# Altium footprint library VH3.96.PcbLib: 28 footprints (part 1 of 2)
Each footprint in its own frame and in the unit in brackets; x right, y up, seen from the top. Pads: shape width x height; smd on the part's side, far side on the other; paste and mask are expansions set on the pad; w line width, h text height; cw(c..) or ccw(c..) is an arc to the next point about the centre after c.
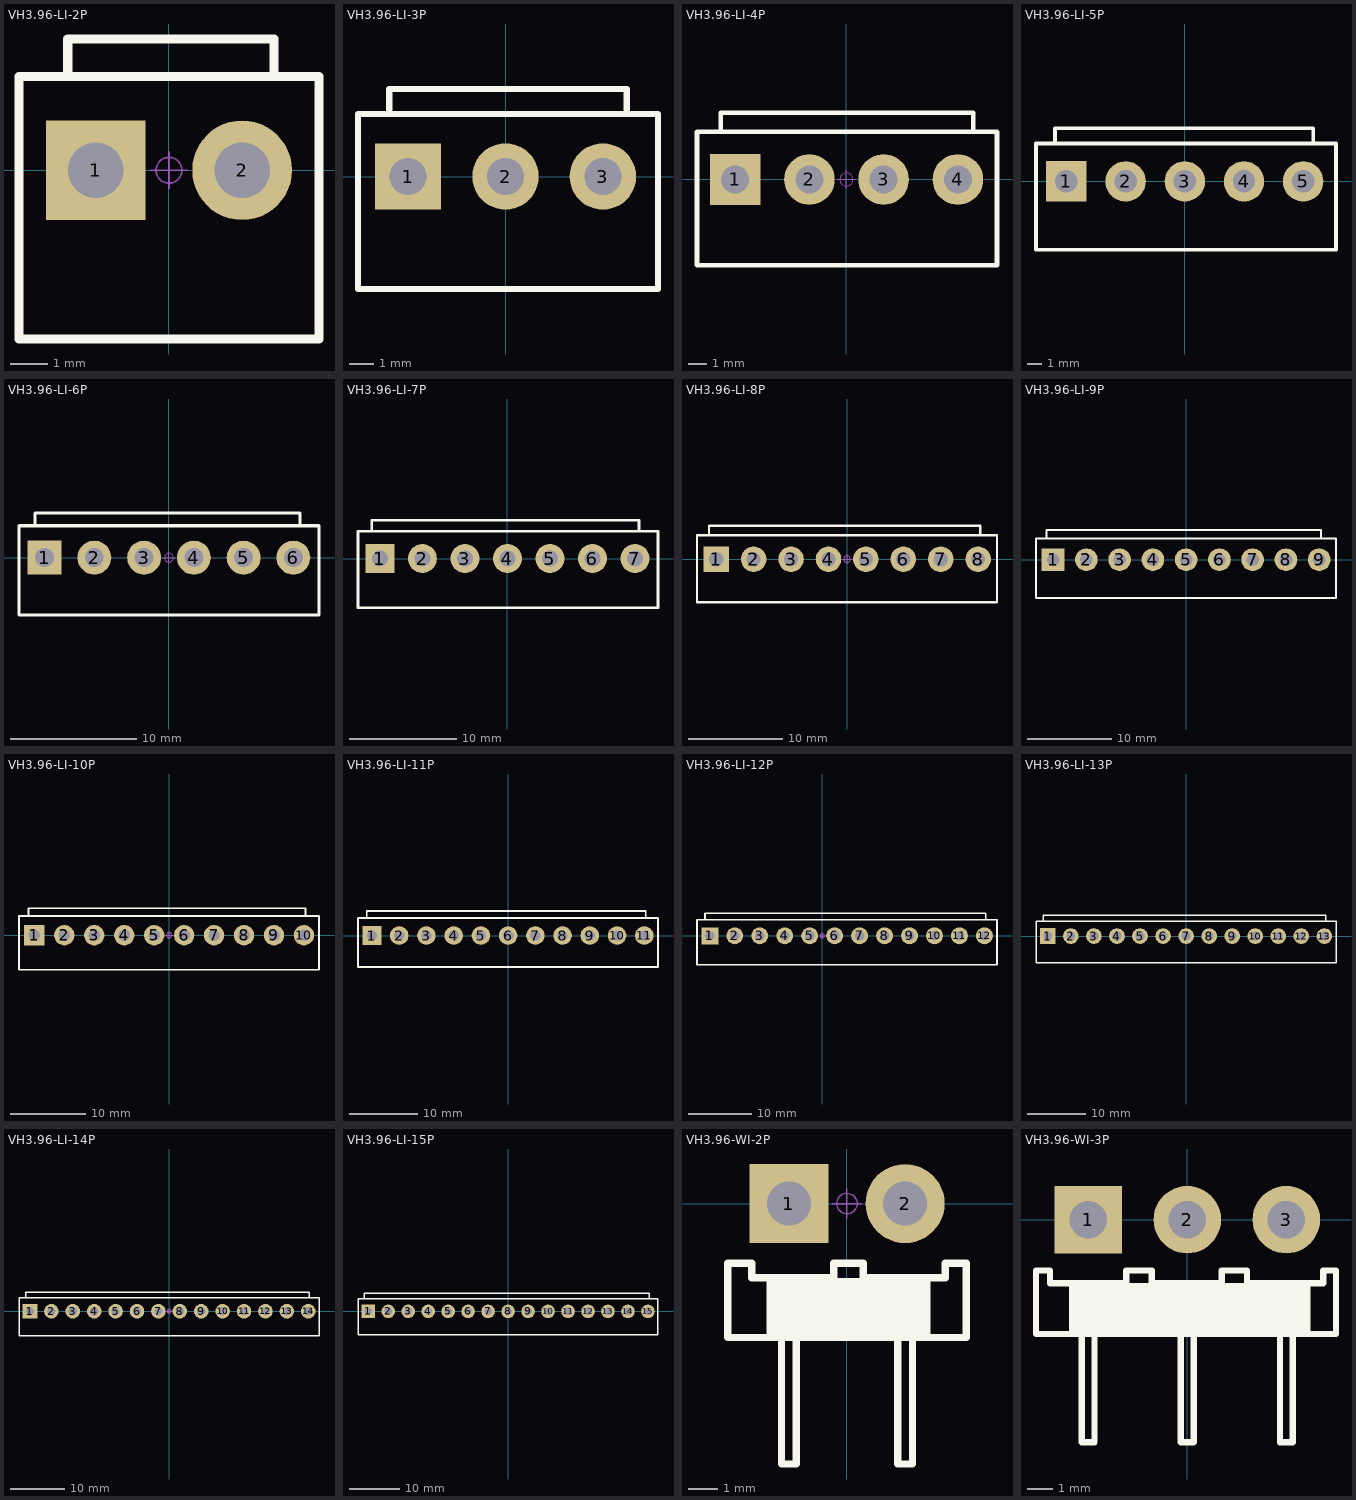
[diagram p0: the footprints below, top view; thin cyan lines are the x and y axes]

## VH3.96-LI-2P [mm] "接插件，25V/5A"
pads (2):
  rect 2.7x2.7 hole 1.5: 1(-1.98,0)
  round 2.7 hole 1.5: 2(1.982,0)
Top Overlay:
  lines w0.254: -2.742,2.54 -2.742,3.556 2.846,3.556 2.846,2.54 ; 4.065,0 4.065,-4.572 ; 4.065,-4.572 4.065,2.54 -4.063,2.54 -4.063,-4.572 -2.336,-4.572 4.065,-4.572
Mechanical 15:
  circle w0.05: c0,0 r0.35
  lines w0.05: -0.5,0 0.5,0 ; 0,-0.5 0,0.5
3D body: height 10.5, standoff -3.3, extent -3.98,-4.4 0.07,4.16
3D body: height 10.5, standoff -3.3, extent -0.02,-4.4 4.03,4.16

## VH3.96-LI-3P [mm] "接插件，25V/5A"
pads (3):
  rect 2.7x2.7 hole 1.5: 1(-3.962,0)
  round 2.7 hole 1.5: 2(0,0) 3(3.96,0)
Top Overlay:
  lines w0.254: -4.724,2.54 -4.724,3.556 4.928,3.556 4.928,2.54 ; -5.994,-4.572 -5.994,2.54 6.198,2.54 6.198,-4.572 -4.318,-4.572 -5.994,-4.572
Mechanical 15:
  circle w0.05: c0,0 r0.35
  lines w0.05: -0.5,0 0.5,0 ; 0,-0.5 0,0.5
3D body: height 10.5, standoff -3.3, extent 1.958,-4.4 6.008,4.16
3D body: height 10.5, standoff -3.3, extent -5.962,-4.4 -1.912,4.16
3D body: height 10.5, standoff -3.3, extent -2.002,-4.4 2.048,4.16

## VH3.96-LI-4P [mm] "接插件，25V/5A"
pads (4):
  rect 2.7x2.7 hole 1.5: 1(-5.94,0)
  round 2.7 hole 1.5: 2(-1.978,0) 3(1.982,0) 4(5.942,0)
Top Overlay:
  lines w0.254: -6.702,2.54 -6.702,3.556 6.76,3.556 6.76,2.54 ; -7.972,-4.572 -7.972,2.54 8.03,2.54 8.03,-4.572 -6.296,-4.572 -7.972,-4.572
Mechanical 15:
  circle w0.05: c0,0 r0.35
  lines w0.05: -0.5,0 0.5,0 ; 0,-0.5 0,0.5
3D body: height 10.5, standoff -3.3, extent -7.94,-4.4 -3.89,4.16
3D body: height 10.5, standoff -3.3, extent -3.98,-4.4 0.07,4.16
3D body: height 10.5, standoff -3.3, extent -0.02,-4.4 4.03,4.16
3D body: height 10.5, standoff -3.3, extent 3.94,-4.4 7.99,4.16

## VH3.96-LI-5P [mm] "接插件，25V/5A"
pads (5):
  rect 2.7x2.7 hole 1.5: 1(-7.92,0)
  round 2.7 hole 1.5: 2(-3.958,0) 3(0.002,0) 4(3.962,0) 5(7.922,0)
Top Overlay:
  lines w0.254: -8.682,2.54 -8.682,3.556 8.59,3.556 8.59,2.54 ; -9.952,-4.572 -8.276,-4.572 10.114,-4.572 10.114,2.54 -9.952,2.54 -9.952,-4.572
Mechanical 15:
  circle w0.05: c0,0 r0.35
  lines w0.05: -0.5,0 0.5,0 ; 0,-0.5 0,0.5
3D body: height 10.5, standoff -3.3, extent 1.958,-4.4 6.008,4.16
3D body: height 10.5, standoff -3.3, extent -2,-4.4 2.05,4.16
3D body: height 10.5, standoff -3.3, extent -5.96,-4.4 -1.91,4.16
3D body: height 10.5, standoff -3.3, extent -9.92,-4.4 -5.87,4.16
3D body: height 10.5, standoff -3.3, extent 5.92,-4.4 9.97,4.16

## VH3.96-LI-6P [mm] "接插件，25V/5A"
pads (6):
  rect 2.7x2.7 hole 1.5: 1(-9.9,0)
  round 2.7 hole 1.5: 2(-5.938,0) 3(-1.978,0) 4(1.982,0) 5(5.942,0) 6(9.902,0)
Top Overlay:
  lines w0.254: -10.662,2.54 -10.662,3.556 10.42,3.556 10.42,2.54 ; -11.932,-4.572 -10.256,-4.572 11.944,-4.572 11.944,2.54 -11.932,2.54 -11.932,-4.572
Mechanical 15:
  circle w0.05: c0,0 r0.35
  lines w0.05: -0.5,0 0.5,0 ; 0,-0.5 0,0.5
3D body: height 10.5, standoff -3.3, extent 7.9,-4.4 11.95,4.16
3D body: height 10.5, standoff -3.3, extent -0.022,-4.4 4.028,4.16
3D body: height 10.5, standoff -3.3, extent -3.98,-4.4 0.07,4.16
3D body: height 10.5, standoff -3.3, extent -7.94,-4.4 -3.89,4.16
3D body: height 10.5, standoff -3.3, extent -11.9,-4.4 -7.85,4.16
3D body: height 10.5, standoff -3.3, extent 3.938,-4.4 7.988,4.16

## VH3.96-LI-7P [mm] "接插件，25V/5A"
pads (7):
  rect 2.7x2.7 hole 1.5: 1(-11.88,0)
  round 2.7 hole 1.5: 2(-7.918,0) 3(-3.958,0) 4(0.002,0) 5(3.962,0) 6(7.922,0) 7(11.882,0)
Top Overlay:
  lines w0.254: -12.642,2.54 -12.642,3.556 12.25,3.556 12.25,2.54 ; -13.912,-4.572 -13.912,2.54 14.028,2.54 14.028,-4.572 -12.236,-4.572 -13.912,-4.572
Mechanical 15:
  circle w0.05: c0,0 r0.35
  lines w0.05: -0.5,0 0.5,0 ; 0,-0.5 0,0.5
3D body: height 10.5, standoff -3.3, extent 9.88,-4.4 13.93,4.16
3D body: height 10.5, standoff -3.3, extent 5.915,-4.4 9.965,4.16
3D body: height 10.5, standoff -3.3, extent 1.958,-4.4 6.008,4.16
3D body: height 10.5, standoff -3.3, extent -13.88,-4.4 -9.83,4.16
3D body: height 10.5, standoff -3.3, extent -9.92,-4.4 -5.87,4.16
3D body: height 10.5, standoff -3.3, extent -5.96,-4.4 -1.91,4.16
3D body: height 10.5, standoff -3.3, extent -2.002,-4.4 2.048,4.16

## VH3.96-LI-8P [mm] "接插件，25V/5A"
pads (8):
  rect 2.7x2.7 hole 1.5: 1(-13.86,0)
  round 2.7 hole 1.5: 2(-9.898,0) 3(-5.938,0) 4(-1.978,0) 5(1.982,0) 6(5.942,0) 7(9.902,0) 8(13.862,0)
Top Overlay:
  lines w0.254: -14.622,2.54 -14.622,3.556 14.08,3.556 14.08,2.54 ; -15.892,-4.572 -15.892,2.54 15.858,2.54 15.858,-4.572 -14.216,-4.572 -15.892,-4.572
Mechanical 15:
  circle w0.05: c0,0 r0.35
  lines w0.05: -0.5,0 0.5,0 ; 0,-0.5 0,0.5
3D body: height 10.5, standoff -3.3, extent 7.898,-4.4 11.948,4.16
3D body: height 10.5, standoff -3.3, extent 3.935,-4.4 7.985,4.16
3D body: height 10.5, standoff -3.3, extent -0.022,-4.4 4.028,4.16
3D body: height 10.5, standoff -3.3, extent -15.86,-4.4 -11.81,4.16
3D body: height 10.5, standoff -3.3, extent -11.9,-4.4 -7.85,4.16
3D body: height 10.5, standoff -3.3, extent -7.94,-4.4 -3.89,4.16
3D body: height 10.5, standoff -3.3, extent -3.982,-4.4 0.068,4.16
3D body: height 10.5, standoff -3.3, extent 11.86,-4.4 15.91,4.16

## VH3.96-LI-9P [mm] "接插件，25V/5A"
pads (9):
  rect 2.7x2.7 hole 1.5: 1(-15.842,0)
  round 2.7 hole 1.5: 2(-11.88,0) 3(-7.92,0) 4(-3.96,0) 5(0,0) 6(3.96,0) 7(7.92,0) 8(11.88,0) 9(15.84,0)
Top Overlay:
  lines w0.254: -16.604,2.54 -16.604,3.556 16.058,3.556 16.058,2.54 ; -17.874,-4.572 -17.874,2.54 17.836,2.54 17.836,-4.572 -16.198,-4.572 -17.874,-4.572
Mechanical 15:
  circle w0.05: c0,0 r0.35
  lines w0.05: -0.5,0 0.5,0 ; 0,-0.5 0,0.5
3D body: height 10.5, standoff -3.3, extent 5.915,-4.4 9.965,4.16
3D body: height 10.5, standoff -3.3, extent 1.953,-4.4 6.003,4.16
3D body: height 10.5, standoff -3.3, extent -2.005,-4.4 2.045,4.16
3D body: height 10.5, standoff -3.3, extent -17.842,-4.4 -13.792,4.16
3D body: height 10.5, standoff -3.3, extent -13.882,-4.4 -9.832,4.16
3D body: height 10.5, standoff -3.3, extent -9.922,-4.4 -5.872,4.16
3D body: height 10.5, standoff -3.3, extent -5.965,-4.4 -1.915,4.16
3D body: height 10.5, standoff -3.3, extent 13.84,-4.4 17.89,4.16
3D body: height 10.5, standoff -3.3, extent 9.875,-4.4 13.925,4.16

## VH3.96-LI-10P [mm] "接插件，25V/5A"
pads (10):
  rect 2.7x2.7 hole 1.5: 1(-17.822,0)
  round 2.7 hole 1.5: 2(-13.86,0) 3(-9.9,0) 4(-5.94,0) 5(-1.98,0) 6(1.98,0) 7(5.94,0) 8(9.9,0) 9(13.86,0) 10(17.82,0)
Top Overlay:
  lines w0.254: -18.584,2.54 -18.584,3.556 18.038,3.556 18.038,2.54 ; -19.854,-4.572 -19.854,2.54 19.816,2.54 19.816,-4.572 -18.178,-4.572 -19.854,-4.572
Mechanical 15:
  circle w0.05: c0,0 r0.35
  lines w0.05: -0.5,0 0.5,0 ; 0,-0.5 0,0.5
3D body: height 10.5, standoff -3.3, extent 11.855,-4.4 15.905,4.16
3D body: height 10.5, standoff -3.3, extent 3.935,-4.4 7.985,4.16
3D body: height 10.5, standoff -3.3, extent -0.027,-4.4 4.023,4.16
3D body: height 10.5, standoff -3.3, extent -3.985,-4.4 0.065,4.16
3D body: height 10.5, standoff -3.3, extent -19.822,-4.4 -15.772,4.16
3D body: height 10.5, standoff -3.3, extent -15.862,-4.4 -11.812,4.16
3D body: height 10.5, standoff -3.3, extent -11.902,-4.4 -7.852,4.16
3D body: height 10.5, standoff -3.3, extent -7.945,-4.4 -3.895,4.16
3D body: height 10.5, standoff -3.3, extent 15.82,-4.4 19.87,4.16
3D body: height 10.5, standoff -3.3, extent 7.895,-4.4 11.945,4.16

## VH3.96-LI-11P [mm] "接插件，25V/5A"
pads (11):
  rect 2.7x2.7 hole 1.5: 1(-19.802,0)
  round 2.7 hole 1.5: 2(-15.84,0) 3(-11.88,0) 4(-7.92,0) 5(-3.96,0) 6(0,0) 7(3.96,0) 8(7.92,0) 9(11.88,0) 10(15.84,0) 11(19.8,0)
Top Overlay:
  lines w0.254: -20.564,2.54 -20.564,3.556 13.86,3.556 17.82,3.556 20.018,3.556 20.018,2.54 ; -21.834,-4.572 -20.158,-4.572 13.86,-4.572 17.82,-4.572 21.796,-4.572 21.796,2.54 17.836,2.54 13.86,2.54 -21.834,2.54 -21.834,-4.572
Mechanical 15:
  circle w0.05: c0,0 r0.35
  lines w0.05: -0.5,0 0.5,0 ; 0,-0.5 0,0.5
3D body: height 10.5, standoff -3.3, extent 13.835,-4.4 17.885,4.16
3D body: height 10.5, standoff -3.3, extent 5.915,-4.4 9.965,4.16
3D body: height 10.5, standoff -3.3, extent 17.8,-4.4 21.85,4.16
3D body: height 10.5, standoff -3.3, extent -9.925,-4.4 -5.875,4.16
3D body: height 10.5, standoff -3.3, extent -13.882,-4.4 -9.832,4.16
3D body: height 10.5, standoff -3.3, extent -17.842,-4.4 -13.792,4.16
3D body: height 10.5, standoff -3.3, extent -21.802,-4.4 -17.752,4.16
3D body: height 10.5, standoff -3.3, extent -5.965,-4.4 -1.915,4.16
3D body: height 10.5, standoff -3.3, extent -2.007,-4.4 2.043,4.16
3D body: height 10.5, standoff -3.3, extent 1.955,-4.4 6.005,4.16
3D body: height 10.5, standoff -3.3, extent 9.875,-4.4 13.925,4.16

## VH3.96-LI-12P [mm] "接插件，25V/5A"
pads (12):
  rect 2.7x2.7 hole 1.5: 1(-17.822,0)
  round 2.7 hole 1.5: 2(-13.86,0) 3(-9.9,0) 4(-5.94,0) 5(-1.98,0) 6(1.98,0) 7(5.94,0) 8(9.9,0) 9(13.86,0) 10(17.82,0) 11(21.78,0) 12(25.74,0)
Top Overlay:
  lines w0.254: -18.584,2.54 -18.584,3.556 15.84,3.556 19.8,3.556 23.76,3.556 25.958,3.556 25.958,2.54 ; 19.8,2.54 23.776,2.54 27.736,2.54 27.736,-4.572 23.76,-4.572 19.8,-4.572 15.84,-4.572 -18.178,-4.572 -19.854,-4.572 -19.854,2.54 15.84,2.54 19.816,2.54
Mechanical 15:
  circle w0.05: c0,0 r0.35
  lines w0.05: -0.5,0 0.5,0 ; 0,-0.5 0,0.5
3D body: height 10.5, standoff -3.3, extent 11.855,-4.4 15.905,4.16
3D body: height 10.5, standoff -3.3, extent 3.935,-4.4 7.985,4.16
3D body: height 10.5, standoff -3.3, extent -0.027,-4.4 4.023,4.16
3D body: height 10.5, standoff -3.3, extent -3.985,-4.4 0.065,4.16
3D body: height 10.5, standoff -3.3, extent -19.822,-4.4 -15.772,4.16
3D body: height 10.5, standoff -3.3, extent -15.862,-4.4 -11.812,4.16
3D body: height 10.5, standoff -3.3, extent -11.902,-4.4 -7.852,4.16
3D body: height 10.5, standoff -3.3, extent -7.945,-4.4 -3.895,4.16
3D body: height 10.5, standoff -3.3, extent 23.74,-4.4 27.79,4.16
3D body: height 10.5, standoff -3.3, extent 7.895,-4.4 11.945,4.16
3D body: height 10.5, standoff -3.3, extent 15.815,-4.4 19.865,4.16
3D body: height 10.5, standoff -3.3, extent 19.775,-4.4 23.825,4.16

## VH3.96-LI-13P [mm] "接插件，25V/5A"
pads (13):
  rect 2.7x2.7 hole 1.5: 1(-23.762,0)
  round 2.7 hole 1.5: 2(-19.8,0) 3(-15.84,0) 4(-11.88,0) 5(-7.92,0) 6(-3.96,0) 7(0,0) 8(3.96,0) 9(7.92,0) 10(11.88,0) 11(15.84,0) 12(19.8,0) 13(23.76,0)
Top Overlay:
  lines w0.254: -24.524,2.54 -24.524,3.556 9.9,3.556 13.86,3.556 17.82,3.556 21.78,3.556 23.978,3.556 23.978,2.54 ; 13.86,2.54 17.836,2.54 ; 13.876,2.54 9.9,2.54 -25.794,2.54 -25.794,-4.572 -24.118,-4.572 9.9,-4.572 13.86,-4.572 17.82,-4.572 21.78,-4.572 25.756,-4.572 25.756,2.54 21.796,2.54 17.82,2.54
Mechanical 15:
  circle w0.05: c0,0 r0.35
  lines w0.05: -0.5,0 0.5,0 ; 0,-0.5 0,0.5
3D body: height 10.5, standoff -3.3, extent 5.915,-4.4 9.965,4.16
3D body: height 10.5, standoff -3.3, extent -2.005,-4.4 2.045,4.16
3D body: height 10.5, standoff -3.3, extent -5.967,-4.4 -1.917,4.16
3D body: height 10.5, standoff -3.3, extent -9.925,-4.4 -5.875,4.16
3D body: height 10.5, standoff -3.3, extent -25.762,-4.4 -21.712,4.16
3D body: height 10.5, standoff -3.3, extent -21.802,-4.4 -17.752,4.16
3D body: height 10.5, standoff -3.3, extent -17.842,-4.4 -13.792,4.16
3D body: height 10.5, standoff -3.3, extent -13.885,-4.4 -9.835,4.16
3D body: height 10.5, standoff -3.3, extent 21.76,-4.4 25.81,4.16
3D body: height 10.5, standoff -3.3, extent 1.955,-4.4 6.005,4.16
3D body: height 10.5, standoff -3.3, extent 9.875,-4.4 13.925,4.16
3D body: height 10.5, standoff -3.3, extent 13.835,-4.4 17.885,4.16
3D body: height 10.5, standoff -3.3, extent 17.795,-4.4 21.845,4.16

## VH3.96-LI-14P [mm] "接插件，25V/5A"
pads (14):
  rect 2.7x2.7 hole 1.5: 1(-25.742,0)
  round 2.7 hole 1.5: 2(-21.78,0) 3(-17.82,0) 4(-13.86,0) 5(-9.9,0) 6(-5.94,0) 7(-1.98,0) 8(1.98,0) 9(5.94,0) 10(9.9,0) 11(13.86,0) 12(17.825,0) 13(21.78,0) 14(25.74,0)
Top Overlay:
  lines w0.254: -26.504,2.54 -26.504,3.556 7.92,3.556 11.88,3.556 15.84,3.556 ; 11.88,2.54 15.856,2.54 ; 11.896,2.54 7.92,2.54 -27.774,2.54 -27.774,-4.572 -26.098,-4.572 7.92,-4.572 11.88,-4.572 15.84,-4.572 ; 15.845,-4.572 19.805,-4.572 ; 15.845,2.54 19.82,2.54 ; 15.845,3.556 19.805,3.556 ; 19.8,-4.572 23.76,-4.572 27.736,-4.572 27.736,2.54 23.776,2.54 19.8,2.54 ; 19.8,3.556 23.76,3.556 25.958,3.556 25.958,2.54
Mechanical 15:
  circle w0.05: c0,0 r0.35
  lines w0.05: -0.5,0 0.5,0 ; 0,-0.5 0,0.5
3D body: height 10.5, standoff -3.3, extent 3.935,-4.4 7.985,4.16
3D body: height 10.5, standoff -3.3, extent -3.985,-4.4 0.065,4.16
3D body: height 10.5, standoff -3.3, extent -7.947,-4.4 -3.897,4.16
3D body: height 10.5, standoff -3.3, extent -11.905,-4.4 -7.855,4.16
3D body: height 10.5, standoff -3.3, extent -27.742,-4.4 -23.692,4.16
3D body: height 10.5, standoff -3.3, extent -23.782,-4.4 -19.732,4.16
3D body: height 10.5, standoff -3.3, extent -19.822,-4.4 -15.772,4.16
3D body: height 10.5, standoff -3.3, extent -15.865,-4.4 -11.815,4.16
3D body: height 10.5, standoff -3.3, extent 23.74,-4.4 27.79,4.16
3D body: height 10.5, standoff -3.3, extent -0.025,-4.4 4.025,4.16
3D body: height 10.5, standoff -3.3, extent 7.895,-4.4 11.945,4.16
3D body: height 10.5, standoff -3.3, extent 11.855,-4.4 15.905,4.16
3D body: height 10.5, standoff -3.3, extent 19.775,-4.4 23.825,4.16
3D body: height 10.5, standoff -3.3, extent 15.82,-4.4 19.87,4.16

## VH3.96-LI-15P [mm] "接插件，25V/5A"
pads (15):
  rect 2.7x2.7 hole 1.5: 1(-27.722,0)
  round 2.7 hole 1.5: 2(-23.76,0) 3(-19.8,0) 4(-15.84,0) 5(-11.88,0) 6(-7.92,0) 7(-3.96,0) 8(0,0) 9(3.96,0) 10(7.92,0) 11(11.88,0) 12(15.845,0) 13(19.8,0) 14(23.765,0) 15(27.72,0)
Top Overlay:
  lines w0.254: -28.484,2.54 -28.484,3.556 5.94,3.556 9.9,3.556 13.86,3.556 ; 9.9,2.54 13.876,2.54 ; 9.916,2.54 5.94,2.54 -29.754,2.54 -29.754,-4.572 -28.078,-4.572 5.94,-4.572 9.9,-4.572 13.86,-4.572 ; 13.865,-4.572 17.825,-4.572 ; 13.865,2.54 17.84,2.54 ; 13.865,3.556 17.825,3.556 ; 17.82,-4.572 21.78,-4.572 ; 17.82,2.54 21.796,2.54 ; 17.82,3.556 21.78,3.556 ; 21.785,-4.572 25.745,-4.572 ; 21.785,2.54 25.76,2.54 ; 21.785,3.556 25.745,3.556 ; 25.74,-4.572 29.716,-4.572 29.716,2.54 25.756,2.54 ; 25.74,3.556 27.938,3.556 27.938,2.54
Mechanical 15:
  circle w0.05: c0,0 r0.35
  lines w0.05: -0.5,0 0.5,0 ; 0,-0.5 0,0.5
3D body: height 10.5, standoff -3.3, extent 1.955,-4.4 6.005,4.16
3D body: height 10.5, standoff -3.3, extent -5.965,-4.4 -1.915,4.16
3D body: height 10.5, standoff -3.3, extent -9.927,-4.4 -5.877,4.16
3D body: height 10.5, standoff -3.3, extent -13.885,-4.4 -9.835,4.16
3D body: height 10.5, standoff -3.3, extent -29.722,-4.4 -25.672,4.16
3D body: height 10.5, standoff -3.3, extent -25.762,-4.4 -21.712,4.16
3D body: height 10.5, standoff -3.3, extent -21.802,-4.4 -17.752,4.16
3D body: height 10.5, standoff -3.3, extent -17.845,-4.4 -13.795,4.16
3D body: height 10.5, standoff -3.3, extent 25.72,-4.4 29.77,4.16
3D body: height 10.5, standoff -3.3, extent -2.005,-4.4 2.045,4.16
3D body: height 10.5, standoff -3.3, extent 5.915,-4.4 9.965,4.16
3D body: height 10.5, standoff -3.3, extent 9.875,-4.4 13.925,4.16
3D body: height 10.5, standoff -3.3, extent 17.795,-4.4 21.845,4.16
3D body: height 10.5, standoff -3.3, extent 13.84,-4.4 17.89,4.16
3D body: height 10.5, standoff -3.3, extent 21.76,-4.4 25.81,4.16

## VH3.96-WI-2P [mm] "接插件，25V/5A"
pads (2):
  rect 2.7x2.7 hole 1.5: 1(-1.98,0)
  round 2.7 hole 1.5: 2(1.982,0)
Top Overlay:
  rectangle: -2.742,-4.572 2.846,-2.54
  lines w0.254: 1.627,-4.572 2.236,-4.572 2.236,-8.89 1.982,-8.89 1.728,-8.89 1.728,-4.572 ; 4.065,-4.572 4.065,-2.032 ; 4.065,-4.572 -2.234,-4.572 -2.234,-8.89 -1.98,-8.89 -1.726,-8.89 -1.726,-4.572 -2.336,-4.572 -4.063,-4.572 -4.063,-2.032 -3.25,-2.032 -3.25,-2.54 -0.456,-2.54 -0.456,-2.032 0.56,-2.032 0.56,-2.54 3.354,-2.54 3.354,-2.032 4.065,-2.032 ; 4.065,-4.572 4.065,-2.032
Mechanical 15:
  circle w0.05: c0,0 r0.35
  lines w0.05: -0.5,0 0.5,0 ; 0,-0.5 0,0.5
3D body: height 8.76, standoff -3.55, extent -4.005,-12 0.045,0.6
3D body: height 8.76, standoff -3.55, extent -0.043,-12 4.007,0.6

## VH3.96-WI-3P [mm] "接插件，25V/5A"
pads (3):
  rect 2.7x2.7 hole 1.5: 1(-3.96,0)
  round 2.7 hole 1.5: 2(0.002,0) 3(3.96,0)
Top Overlay:
  rectangle: -4.722,-4.572 4.93,-2.54
  lines w0.254: -0.353,-4.572 0.256,-4.572 0.256,-8.89 0.002,-8.89 -0.252,-8.89 -0.252,-4.572 ; 3.604,-4.572 4.214,-4.572 4.214,-8.89 3.96,-8.89 3.706,-8.89 3.706,-4.572 ; -6.043,-4.572 -4.316,-4.572 -3.706,-4.572 -3.706,-8.89 -3.96,-8.89 -4.214,-8.89 -4.214,-4.572 5.946,-4.572 5.946,-2.032 5.438,-2.032 5.438,-2.54 2.39,-2.54 2.39,-2.032 2.085,-2.032 1.374,-2.032 1.374,-2.54 -1.42,-2.54 -1.42,-2.032 -2.436,-2.032 -2.436,-2.54 -5.484,-2.54 -5.484,-2.032 -6.043,-2.032 -6.043,-4.572
Mechanical 15:
  circle w0.05: c0,0 r0.35
  lines w0.05: -0.5,0 0.5,0 ; 0,-0.5 0,0.5
3D body: height 8.76, standoff -3.55, extent -2.025,-12 2.025,0.6
3D body: height 8.76, standoff -3.55, extent 1.935,-12 5.985,0.6
3D body: height 8.76, standoff -3.55, extent -5.985,-12 -1.935,0.6